# Altium integrated library Vishay Vitramon Ceramic Dipped Capacitor.IntLib: 3117 symbols (part 2 of 35)
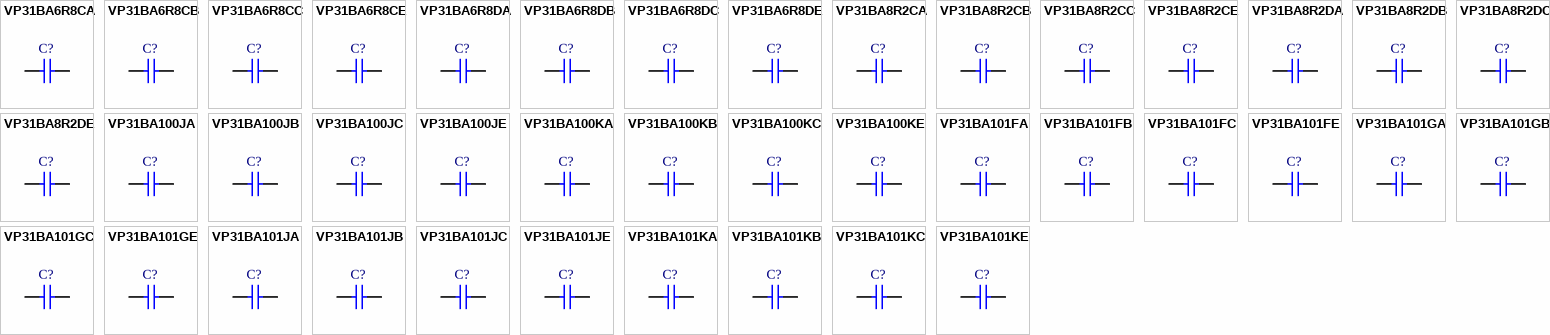
[diagram p78: symbols VP31BA6R8CA to VP31BA101KE]

## VP31BA8R2CC
designator C?
Dipped Radial Multilayer Ceramic Capacitor COG (NPO): 8.2pF, 200V; Published: 17-Dec-2003; DatasheetDocument: 7-Jan-2002; PackageDocument: 7-Jan-2002; PackageReference: VP31-3.2; Publisher: Altium Limited; ComponentLink1Description: Manufacturer Link; ComponentLink1URL: http://www.vishay.com/; Value: 8.2pF
footprint VP31-3.2 (Capacitor, Ceramic, Thru-Hole, Dipped Radial; Body 4 x 3.2 mm (WxT) Pin Spacing 2.54 mm (typ))
simulation model CAP (Capacitor)
signal-integrity model Cap
pins: 1, 2

## VP31BA8R2CE
designator C?
Dipped Radial Multilayer Ceramic Capacitor COG (NPO): 8.2pF, 500V; Published: 17-Dec-2003; DatasheetDocument: 7-Jan-2002; PackageDocument: 7-Jan-2002; PackageReference: VP31-3.2; Publisher: Altium Limited; ComponentLink1Description: Manufacturer Link; ComponentLink1URL: http://www.vishay.com/; Value: 8.2pF
footprint VP31-3.2 (Capacitor, Ceramic, Thru-Hole, Dipped Radial; Body 4 x 3.2 mm (WxT) Pin Spacing 2.54 mm (typ))
simulation model CAP (Capacitor)
signal-integrity model Cap
pins: 1, 2

## VP31BA8R2DA
designator C?
Dipped Radial Multilayer Ceramic Capacitor COG (NPO): 8.2pF, 50/63V; Note: See Datasheet for other packages & tolerances; Published: 17-Dec-2003; DatasheetDocument: 2-Jan-2002; PackageDocument: 8-Feb-2002; PackageReference: VP31-2.5; Publisher: Altium Limited; ComponentLink1Description: Manufacturer Link; ComponentLink1URL: http://www.vishay.com/; Value: 8.2pF
footprint VP31-2.5 (Capacitor, Ceramic, Thru-Hole, Dipped Radial; Body 4 x 2.5 mm (WxT) Pin Spacing 2.54 mm (typ))
simulation model CAP (Capacitor)
signal-integrity model Cap
pins: 1, 2

## VP31BA8R2DB
designator C?
Dipped Radial Multilayer Ceramic Capacitor COG (NPO): 8.2pF, 100V; Note: See Datasheet for other packages & tolerances; Published: 17-Dec-2003; DatasheetDocument: 2-Jan-2002; PackageDocument: 8-Feb-2002; PackageReference: VP31-2.5; Publisher: Altium Limited; ComponentLink1Description: Manufacturer Link; ComponentLink1URL: http://www.vishay.com/; Value: 8.2pF
footprint VP31-2.5 (Capacitor, Ceramic, Thru-Hole, Dipped Radial; Body 4 x 2.5 mm (WxT) Pin Spacing 2.54 mm (typ))
simulation model CAP (Capacitor)
signal-integrity model Cap
pins: 1, 2

## VP31BA8R2DC
designator C?
Dipped Radial Multilayer Ceramic Capacitor COG (NPO): 8.2pF, 200V; Published: 17-Dec-2003; DatasheetDocument: 7-Jan-2002; PackageDocument: 7-Jan-2002; PackageReference: VP31-3.2; Publisher: Altium Limited; ComponentLink1Description: Manufacturer Link; ComponentLink1URL: http://www.vishay.com/; Value: 8.2pF
footprint VP31-3.2 (Capacitor, Ceramic, Thru-Hole, Dipped Radial; Body 4 x 3.2 mm (WxT) Pin Spacing 2.54 mm (typ))
simulation model CAP (Capacitor)
signal-integrity model Cap
pins: 1, 2

## VP31BA8R2DE
designator C?
Dipped Radial Multilayer Ceramic Capacitor COG (NPO): 8.2pF, 500V; Published: 17-Dec-2003; DatasheetDocument: 7-Jan-2002; PackageDocument: 7-Jan-2002; PackageReference: VP31-3.2; Publisher: Altium Limited; ComponentLink1Description: Manufacturer Link; ComponentLink1URL: http://www.vishay.com/; Value: 8.2pF
footprint VP31-3.2 (Capacitor, Ceramic, Thru-Hole, Dipped Radial; Body 4 x 3.2 mm (WxT) Pin Spacing 2.54 mm (typ))
simulation model CAP (Capacitor)
signal-integrity model Cap
pins: 1, 2

## VP31BA100JA
designator C?
Dipped Radial Multilayer Ceramic Capacitor COG (NPO): 10pF, 50/63V; Note: See Datasheet for other packages & tolerances; Published: 17-Dec-2003; DatasheetDocument: 2-Jan-2002; PackageDocument: 8-Feb-2002; PackageReference: VP31-2.5; Publisher: Altium Limited; ComponentLink1Description: Manufacturer Link; ComponentLink1URL: http://www.vishay.com/; Value: 10pF
footprint VP31-2.5 (Capacitor, Ceramic, Thru-Hole, Dipped Radial; Body 4 x 2.5 mm (WxT) Pin Spacing 2.54 mm (typ))
simulation model CAP (Capacitor)
signal-integrity model Cap
pins: 1, 2

## VP31BA100JB
designator C?
Dipped Radial Multilayer Ceramic Capacitor COG (NPO): 10pF, 100V; Note: See Datasheet for other packages & tolerances; Published: 17-Dec-2003; DatasheetDocument: 2-Jan-2002; PackageDocument: 8-Feb-2002; PackageReference: VP31-2.5; Publisher: Altium Limited; ComponentLink1Description: Manufacturer Link; ComponentLink1URL: http://www.vishay.com/; Value: 10pF
footprint VP31-2.5 (Capacitor, Ceramic, Thru-Hole, Dipped Radial; Body 4 x 2.5 mm (WxT) Pin Spacing 2.54 mm (typ))
simulation model CAP (Capacitor)
signal-integrity model Cap
pins: 1, 2

## VP31BA100JC
designator C?
Dipped Radial Multilayer Ceramic Capacitor COG (NPO): 10pF, 200V; Published: 17-Dec-2003; DatasheetDocument: 7-Jan-2002; PackageDocument: 7-Jan-2002; PackageReference: VP31-3.2; Publisher: Altium Limited; ComponentLink1Description: Manufacturer Link; ComponentLink1URL: http://www.vishay.com/; Value: 10pF
footprint VP31-3.2 (Capacitor, Ceramic, Thru-Hole, Dipped Radial; Body 4 x 3.2 mm (WxT) Pin Spacing 2.54 mm (typ))
simulation model CAP (Capacitor)
signal-integrity model Cap
pins: 1, 2

## VP31BA100JE
designator C?
Dipped Radial Multilayer Ceramic Capacitor COG (NPO): 10pF, 500V; Published: 17-Dec-2003; DatasheetDocument: 7-Jan-2002; PackageDocument: 7-Jan-2002; PackageReference: VP31-3.2; Publisher: Altium Limited; ComponentLink1Description: Manufacturer Link; ComponentLink1URL: http://www.vishay.com/; Value: 10pF
footprint VP31-3.2 (Capacitor, Ceramic, Thru-Hole, Dipped Radial; Body 4 x 3.2 mm (WxT) Pin Spacing 2.54 mm (typ))
simulation model CAP (Capacitor)
signal-integrity model Cap
pins: 1, 2

## VP31BA100KA
designator C?
Dipped Radial Multilayer Ceramic Capacitor COG (NPO): 10pF, 50/63V; Note: See Datasheet for other packages & tolerances; Published: 17-Dec-2003; DatasheetDocument: 2-Jan-2002; PackageDocument: 8-Feb-2002; PackageReference: VP31-2.5; Publisher: Altium Limited; ComponentLink1Description: Manufacturer Link; ComponentLink1URL: http://www.vishay.com/; Value: 10pF
footprint VP31-2.5 (Capacitor, Ceramic, Thru-Hole, Dipped Radial; Body 4 x 2.5 mm (WxT) Pin Spacing 2.54 mm (typ))
simulation model CAP (Capacitor)
signal-integrity model Cap
pins: 1, 2

## VP31BA100KB
designator C?
Dipped Radial Multilayer Ceramic Capacitor COG (NPO): 10pF, 100V; Note: See Datasheet for other packages & tolerances; Published: 17-Dec-2003; DatasheetDocument: 2-Jan-2002; PackageDocument: 8-Feb-2002; PackageReference: VP31-2.5; Publisher: Altium Limited; ComponentLink1Description: Manufacturer Link; ComponentLink1URL: http://www.vishay.com/; Value: 10pF
footprint VP31-2.5 (Capacitor, Ceramic, Thru-Hole, Dipped Radial; Body 4 x 2.5 mm (WxT) Pin Spacing 2.54 mm (typ))
simulation model CAP (Capacitor)
signal-integrity model Cap
pins: 1, 2

## VP31BA100KC
designator C?
Dipped Radial Multilayer Ceramic Capacitor COG (NPO): 10pF, 200V; Published: 17-Dec-2003; DatasheetDocument: 7-Jan-2002; PackageDocument: 7-Jan-2002; PackageReference: VP31-3.2; Publisher: Altium Limited; ComponentLink1Description: Manufacturer Link; ComponentLink1URL: http://www.vishay.com/; Value: 10pF
footprint VP31-3.2 (Capacitor, Ceramic, Thru-Hole, Dipped Radial; Body 4 x 3.2 mm (WxT) Pin Spacing 2.54 mm (typ))
simulation model CAP (Capacitor)
signal-integrity model Cap
pins: 1, 2

## VP31BA100KE
designator C?
Dipped Radial Multilayer Ceramic Capacitor COG (NPO): 10pF, 500V; Published: 17-Dec-2003; DatasheetDocument: 7-Jan-2002; PackageDocument: 7-Jan-2002; PackageReference: VP31-3.2; Publisher: Altium Limited; ComponentLink1Description: Manufacturer Link; ComponentLink1URL: http://www.vishay.com/; Value: 10pF
footprint VP31-3.2 (Capacitor, Ceramic, Thru-Hole, Dipped Radial; Body 4 x 3.2 mm (WxT) Pin Spacing 2.54 mm (typ))
simulation model CAP (Capacitor)
signal-integrity model Cap
pins: 1, 2

## VP31BA101FA
designator C?
Dipped Radial Multilayer Ceramic Capacitor COG (NPO): 100pF, 50/63V; Note: See Datasheet for other packages & tolerances; Published: 17-Dec-2003; DatasheetDocument: 2-Jan-2002; PackageDocument: 8-Feb-2002; PackageReference: VP31-2.5; Publisher: Altium Limited; ComponentLink1Description: Manufacturer Link; ComponentLink1URL: http://www.vishay.com/; Value: 100pF
footprint VP31-2.5 (Capacitor, Ceramic, Thru-Hole, Dipped Radial; Body 4 x 2.5 mm (WxT) Pin Spacing 2.54 mm (typ))
simulation model CAP (Capacitor)
signal-integrity model Cap
pins: 1, 2

## VP31BA101FB
designator C?
Dipped Radial Multilayer Ceramic Capacitor COG (NPO): 100pF, 100V; Note: See Datasheet for other packages & tolerances; Published: 17-Dec-2003; DatasheetDocument: 2-Jan-2002; PackageDocument: 8-Feb-2002; PackageReference: VP31-2.5; Publisher: Altium Limited; ComponentLink1Description: Manufacturer Link; ComponentLink1URL: http://www.vishay.com/; Value: 100pF
footprint VP31-2.5 (Capacitor, Ceramic, Thru-Hole, Dipped Radial; Body 4 x 2.5 mm (WxT) Pin Spacing 2.54 mm (typ))
simulation model CAP (Capacitor)
signal-integrity model Cap
pins: 1, 2

## VP31BA101FC
designator C?
Dipped Radial Multilayer Ceramic Capacitor COG (NPO): 100pF, 200V; Published: 17-Dec-2003; DatasheetDocument: 7-Jan-2002; PackageDocument: 7-Jan-2002; PackageReference: VP31-3.2; Publisher: Altium Limited; ComponentLink1Description: Manufacturer Link; ComponentLink1URL: http://www.vishay.com/; Value: 100pF
footprint VP31-3.2 (Capacitor, Ceramic, Thru-Hole, Dipped Radial; Body 4 x 3.2 mm (WxT) Pin Spacing 2.54 mm (typ))
simulation model CAP (Capacitor)
signal-integrity model Cap
pins: 1, 2

## VP31BA101FE
designator C?
Dipped Radial Multilayer Ceramic Capacitor COG (NPO): 100pF, 500V; Published: 17-Dec-2003; DatasheetDocument: 7-Jan-2002; PackageDocument: 7-Jan-2002; PackageReference: VP31-3.2; Publisher: Altium Limited; ComponentLink1Description: Manufacturer Link; ComponentLink1URL: http://www.vishay.com/; Value: 100pF
footprint VP31-3.2 (Capacitor, Ceramic, Thru-Hole, Dipped Radial; Body 4 x 3.2 mm (WxT) Pin Spacing 2.54 mm (typ))
simulation model CAP (Capacitor)
signal-integrity model Cap
pins: 1, 2

## VP31BA101GA
designator C?
Dipped Radial Multilayer Ceramic Capacitor COG (NPO): 100pF, 50/63V; Note: See Datasheet for other packages & tolerances; Published: 17-Dec-2003; DatasheetDocument: 2-Jan-2002; PackageDocument: 8-Feb-2002; PackageReference: VP31-2.5; Publisher: Altium Limited; ComponentLink1Description: Manufacturer Link; ComponentLink1URL: http://www.vishay.com/; Value: 100pF
footprint VP31-2.5 (Capacitor, Ceramic, Thru-Hole, Dipped Radial; Body 4 x 2.5 mm (WxT) Pin Spacing 2.54 mm (typ))
simulation model CAP (Capacitor)
signal-integrity model Cap
pins: 1, 2

## VP31BA101GB
designator C?
Dipped Radial Multilayer Ceramic Capacitor COG (NPO): 100pF, 100V; Note: See Datasheet for other packages & tolerances; Published: 17-Dec-2003; DatasheetDocument: 2-Jan-2002; PackageDocument: 8-Feb-2002; PackageReference: VP31-2.5; Publisher: Altium Limited; ComponentLink1Description: Manufacturer Link; ComponentLink1URL: http://www.vishay.com/; Value: 100pF
footprint VP31-2.5 (Capacitor, Ceramic, Thru-Hole, Dipped Radial; Body 4 x 2.5 mm (WxT) Pin Spacing 2.54 mm (typ))
simulation model CAP (Capacitor)
signal-integrity model Cap
pins: 1, 2

## VP31BA101GC
designator C?
Dipped Radial Multilayer Ceramic Capacitor COG (NPO): 100pF, 200V; Published: 17-Dec-2003; DatasheetDocument: 7-Jan-2002; PackageDocument: 7-Jan-2002; PackageReference: VP31-3.2; Publisher: Altium Limited; ComponentLink1Description: Manufacturer Link; ComponentLink1URL: http://www.vishay.com/; Value: 100pF
footprint VP31-3.2 (Capacitor, Ceramic, Thru-Hole, Dipped Radial; Body 4 x 3.2 mm (WxT) Pin Spacing 2.54 mm (typ))
simulation model CAP (Capacitor)
signal-integrity model Cap
pins: 1, 2

## VP31BA101GE
designator C?
Dipped Radial Multilayer Ceramic Capacitor COG (NPO): 100pF, 500V; Published: 17-Dec-2003; DatasheetDocument: 7-Jan-2002; PackageDocument: 7-Jan-2002; PackageReference: VP31-3.2; Publisher: Altium Limited; ComponentLink1Description: Manufacturer Link; ComponentLink1URL: http://www.vishay.com/; Value: 100pF
footprint VP31-3.2 (Capacitor, Ceramic, Thru-Hole, Dipped Radial; Body 4 x 3.2 mm (WxT) Pin Spacing 2.54 mm (typ))
simulation model CAP (Capacitor)
signal-integrity model Cap
pins: 1, 2

## VP31BA101JA
designator C?
Dipped Radial Multilayer Ceramic Capacitor COG (NPO): 100pF, 50/63V; Note: See Datasheet for other packages & tolerances; Published: 17-Dec-2003; DatasheetDocument: 2-Jan-2002; PackageDocument: 8-Feb-2002; PackageReference: VP31-2.5; Publisher: Altium Limited; ComponentLink1Description: Manufacturer Link; ComponentLink1URL: http://www.vishay.com/; Value: 100pF
footprint VP31-2.5 (Capacitor, Ceramic, Thru-Hole, Dipped Radial; Body 4 x 2.5 mm (WxT) Pin Spacing 2.54 mm (typ))
simulation model CAP (Capacitor)
signal-integrity model Cap
pins: 1, 2

## VP31BA101JB
designator C?
Dipped Radial Multilayer Ceramic Capacitor COG (NPO): 100pF, 100V; Note: See Datasheet for other packages & tolerances; Published: 17-Dec-2003; DatasheetDocument: 2-Jan-2002; PackageDocument: 8-Feb-2002; PackageReference: VP31-2.5; Publisher: Altium Limited; ComponentLink1Description: Manufacturer Link; ComponentLink1URL: http://www.vishay.com/; Value: 100pF
footprint VP31-2.5 (Capacitor, Ceramic, Thru-Hole, Dipped Radial; Body 4 x 2.5 mm (WxT) Pin Spacing 2.54 mm (typ))
simulation model CAP (Capacitor)
signal-integrity model Cap
pins: 1, 2

## VP31BA101JC
designator C?
Dipped Radial Multilayer Ceramic Capacitor COG (NPO): 100pF, 200V; Published: 17-Dec-2003; DatasheetDocument: 7-Jan-2002; PackageDocument: 7-Jan-2002; PackageReference: VP31-3.2; Publisher: Altium Limited; ComponentLink1Description: Manufacturer Link; ComponentLink1URL: http://www.vishay.com/; Value: 100pF
footprint VP31-3.2 (Capacitor, Ceramic, Thru-Hole, Dipped Radial; Body 4 x 3.2 mm (WxT) Pin Spacing 2.54 mm (typ))
simulation model CAP (Capacitor)
signal-integrity model Cap
pins: 1, 2

## VP31BA101JE
designator C?
Dipped Radial Multilayer Ceramic Capacitor COG (NPO): 100pF, 500V; Published: 17-Dec-2003; DatasheetDocument: 7-Jan-2002; PackageDocument: 7-Jan-2002; PackageReference: VP31-3.2; Publisher: Altium Limited; ComponentLink1Description: Manufacturer Link; ComponentLink1URL: http://www.vishay.com/; Value: 100pF
footprint VP31-3.2 (Capacitor, Ceramic, Thru-Hole, Dipped Radial; Body 4 x 3.2 mm (WxT) Pin Spacing 2.54 mm (typ))
simulation model CAP (Capacitor)
signal-integrity model Cap
pins: 1, 2

## VP31BA101KA
designator C?
Dipped Radial Multilayer Ceramic Capacitor COG (NPO): 100pF, 50/63V; Note: See Datasheet for other packages & tolerances; Published: 17-Dec-2003; DatasheetDocument: 2-Jan-2002; PackageDocument: 8-Feb-2002; PackageReference: VP31-2.5; Publisher: Altium Limited; ComponentLink1Description: Manufacturer Link; ComponentLink1URL: http://www.vishay.com/; Value: 100pF
footprint VP31-2.5 (Capacitor, Ceramic, Thru-Hole, Dipped Radial; Body 4 x 2.5 mm (WxT) Pin Spacing 2.54 mm (typ))
simulation model CAP (Capacitor)
signal-integrity model Cap
pins: 1, 2

## VP31BA101KB
designator C?
Dipped Radial Multilayer Ceramic Capacitor COG (NPO): 100pF, 100V; Note: See Datasheet for other packages & tolerances; Published: 17-Dec-2003; DatasheetDocument: 2-Jan-2002; PackageDocument: 8-Feb-2002; PackageReference: VP31-2.5; Publisher: Altium Limited; ComponentLink1Description: Manufacturer Link; ComponentLink1URL: http://www.vishay.com/; Value: 100pF
footprint VP31-2.5 (Capacitor, Ceramic, Thru-Hole, Dipped Radial; Body 4 x 2.5 mm (WxT) Pin Spacing 2.54 mm (typ))
simulation model CAP (Capacitor)
signal-integrity model Cap
pins: 1, 2

## VP31BA101KC
designator C?
Dipped Radial Multilayer Ceramic Capacitor COG (NPO): 100pF, 200V; Published: 17-Dec-2003; DatasheetDocument: 7-Jan-2002; PackageDocument: 7-Jan-2002; PackageReference: VP31-3.2; Publisher: Altium Limited; ComponentLink1Description: Manufacturer Link; ComponentLink1URL: http://www.vishay.com/; Value: 100pF
footprint VP31-3.2 (Capacitor, Ceramic, Thru-Hole, Dipped Radial; Body 4 x 3.2 mm (WxT) Pin Spacing 2.54 mm (typ))
simulation model CAP (Capacitor)
signal-integrity model Cap
pins: 1, 2

## VP31BA101KE
designator C?
Dipped Radial Multilayer Ceramic Capacitor COG (NPO): 100pF, 500V; Published: 17-Dec-2003; DatasheetDocument: 7-Jan-2002; PackageDocument: 7-Jan-2002; PackageReference: VP31-3.2; Publisher: Altium Limited; ComponentLink1Description: Manufacturer Link; ComponentLink1URL: http://www.vishay.com/; Value: 100pF
footprint VP31-3.2 (Capacitor, Ceramic, Thru-Hole, Dipped Radial; Body 4 x 3.2 mm (WxT) Pin Spacing 2.54 mm (typ))
simulation model CAP (Capacitor)
signal-integrity model Cap
pins: 1, 2

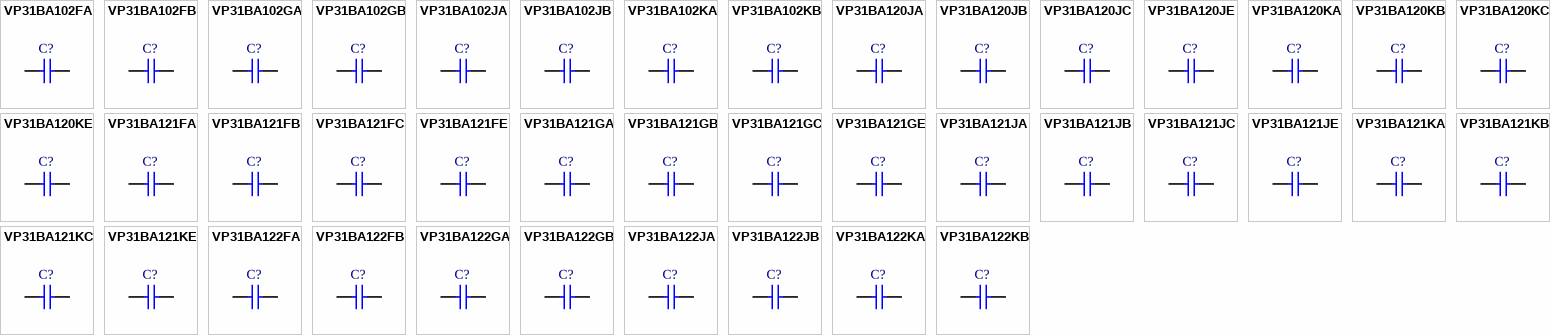
[diagram p3: symbols VP31BA102FA to VP31BA122KB]

## VP31BA102FA
designator C?
Dipped Radial Multilayer Ceramic Capacitor COG (NPO): 1000pF, 50/63V; Note: See Datasheet for other packages & tolerances; Value: 1nF; Published: 17-Dec-2003; DatasheetDocument: 2-Jan-2002; PackageDocument: 8-Feb-2002; PackageReference: VP31-2.5; Publisher: Altium Limited; ComponentLink1Description: Manufacturer Link; ComponentLink1URL: http://www.vishay.com/
footprint VP31-2.5 (Capacitor, Ceramic, Thru-Hole, Dipped Radial; Body 4 x 2.5 mm (WxT) Pin Spacing 2.54 mm (typ))
simulation model CAP (Capacitor)
signal-integrity model Cap
pins: 1, 2

## VP31BA102FB
designator C?
Dipped Radial Multilayer Ceramic Capacitor COG (NPO): 1000pF, 100V; Note: See Datasheet for other packages & tolerances; Value: 1nF; Published: 17-Dec-2003; DatasheetDocument: 2-Jan-2002; PackageDocument: 8-Feb-2002; PackageReference: VP31-2.5; Publisher: Altium Limited; ComponentLink1Description: Manufacturer Link; ComponentLink1URL: http://www.vishay.com/
footprint VP31-2.5 (Capacitor, Ceramic, Thru-Hole, Dipped Radial; Body 4 x 2.5 mm (WxT) Pin Spacing 2.54 mm (typ))
simulation model CAP (Capacitor)
signal-integrity model Cap
pins: 1, 2

## VP31BA102GA
designator C?
Dipped Radial Multilayer Ceramic Capacitor COG (NPO): 1000pF, 50/63V; Note: See Datasheet for other packages & tolerances; Value: 1nF; Published: 17-Dec-2003; DatasheetDocument: 2-Jan-2002; PackageDocument: 8-Feb-2002; PackageReference: VP31-2.5; Publisher: Altium Limited; ComponentLink1Description: Manufacturer Link; ComponentLink1URL: http://www.vishay.com/
footprint VP31-2.5 (Capacitor, Ceramic, Thru-Hole, Dipped Radial; Body 4 x 2.5 mm (WxT) Pin Spacing 2.54 mm (typ))
simulation model CAP (Capacitor)
signal-integrity model Cap
pins: 1, 2

## VP31BA102GB
designator C?
Dipped Radial Multilayer Ceramic Capacitor COG (NPO): 1000pF, 100V; Note: See Datasheet for other packages & tolerances; Value: 1nF; Published: 17-Dec-2003; DatasheetDocument: 2-Jan-2002; PackageDocument: 8-Feb-2002; PackageReference: VP31-2.5; Publisher: Altium Limited; ComponentLink1Description: Manufacturer Link; ComponentLink1URL: http://www.vishay.com/
footprint VP31-2.5 (Capacitor, Ceramic, Thru-Hole, Dipped Radial; Body 4 x 2.5 mm (WxT) Pin Spacing 2.54 mm (typ))
simulation model CAP (Capacitor)
signal-integrity model Cap
pins: 1, 2

## VP31BA102JA
designator C?
Dipped Radial Multilayer Ceramic Capacitor COG (NPO): 1000pF, 50/63V; Note: See Datasheet for other packages & tolerances; Value: 1nF; Published: 17-Dec-2003; DatasheetDocument: 2-Jan-2002; PackageDocument: 8-Feb-2002; PackageReference: VP31-2.5; Publisher: Altium Limited; ComponentLink1Description: Manufacturer Link; ComponentLink1URL: http://www.vishay.com/
footprint VP31-2.5 (Capacitor, Ceramic, Thru-Hole, Dipped Radial; Body 4 x 2.5 mm (WxT) Pin Spacing 2.54 mm (typ))
simulation model CAP (Capacitor)
signal-integrity model Cap
pins: 1, 2

## VP31BA102JB
designator C?
Dipped Radial Multilayer Ceramic Capacitor COG (NPO): 1000pF, 100V; Note: See Datasheet for other packages & tolerances; Value: 1nF; Published: 17-Dec-2003; DatasheetDocument: 2-Jan-2002; PackageDocument: 8-Feb-2002; PackageReference: VP31-2.5; Publisher: Altium Limited; ComponentLink1Description: Manufacturer Link; ComponentLink1URL: http://www.vishay.com/
footprint VP31-2.5 (Capacitor, Ceramic, Thru-Hole, Dipped Radial; Body 4 x 2.5 mm (WxT) Pin Spacing 2.54 mm (typ))
simulation model CAP (Capacitor)
signal-integrity model Cap
pins: 1, 2

## VP31BA102KA
designator C?
Dipped Radial Multilayer Ceramic Capacitor COG (NPO): 1000pF, 50/63V; Note: See Datasheet for other packages & tolerances; Value: 1nF; Published: 17-Dec-2003; DatasheetDocument: 2-Jan-2002; PackageDocument: 8-Feb-2002; PackageReference: VP31-2.5; Publisher: Altium Limited; ComponentLink1Description: Manufacturer Link; ComponentLink1URL: http://www.vishay.com/
footprint VP31-2.5 (Capacitor, Ceramic, Thru-Hole, Dipped Radial; Body 4 x 2.5 mm (WxT) Pin Spacing 2.54 mm (typ))
simulation model CAP (Capacitor)
signal-integrity model Cap
pins: 1, 2

## VP31BA102KB
designator C?
Dipped Radial Multilayer Ceramic Capacitor COG (NPO): 1000pF, 100V; Note: See Datasheet for other packages & tolerances; Value: 1nF; Published: 17-Dec-2003; DatasheetDocument: 2-Jan-2002; PackageDocument: 8-Feb-2002; PackageReference: VP31-2.5; Publisher: Altium Limited; ComponentLink1Description: Manufacturer Link; ComponentLink1URL: http://www.vishay.com/
footprint VP31-2.5 (Capacitor, Ceramic, Thru-Hole, Dipped Radial; Body 4 x 2.5 mm (WxT) Pin Spacing 2.54 mm (typ))
simulation model CAP (Capacitor)
signal-integrity model Cap
pins: 1, 2

## VP31BA120JA
designator C?
Dipped Radial Multilayer Ceramic Capacitor COG (NPO): 12pF, 50/63V; Note: See Datasheet for other packages & tolerances; Published: 17-Dec-2003; DatasheetDocument: 2-Jan-2002; PackageDocument: 8-Feb-2002; PackageReference: VP31-2.5; Publisher: Altium Limited; ComponentLink1Description: Manufacturer Link; ComponentLink1URL: http://www.vishay.com/; Value: 12pF
footprint VP31-2.5 (Capacitor, Ceramic, Thru-Hole, Dipped Radial; Body 4 x 2.5 mm (WxT) Pin Spacing 2.54 mm (typ))
simulation model CAP (Capacitor)
signal-integrity model Cap
pins: 1, 2

## VP31BA120JB
designator C?
Dipped Radial Multilayer Ceramic Capacitor COG (NPO): 12pF, 100V; Note: See Datasheet for other packages & tolerances; Published: 17-Dec-2003; DatasheetDocument: 2-Jan-2002; PackageDocument: 8-Feb-2002; PackageReference: VP31-2.5; Publisher: Altium Limited; ComponentLink1Description: Manufacturer Link; ComponentLink1URL: http://www.vishay.com/; Value: 12pF
footprint VP31-2.5 (Capacitor, Ceramic, Thru-Hole, Dipped Radial; Body 4 x 2.5 mm (WxT) Pin Spacing 2.54 mm (typ))
simulation model CAP (Capacitor)
signal-integrity model Cap
pins: 1, 2

## VP31BA120JC
designator C?
Dipped Radial Multilayer Ceramic Capacitor COG (NPO): 12pF, 200V; Published: 17-Dec-2003; DatasheetDocument: 7-Jan-2002; PackageDocument: 7-Jan-2002; PackageReference: VP31-3.2; Publisher: Altium Limited; ComponentLink1Description: Manufacturer Link; ComponentLink1URL: http://www.vishay.com/; Value: 12pF
footprint VP31-3.2 (Capacitor, Ceramic, Thru-Hole, Dipped Radial; Body 4 x 3.2 mm (WxT) Pin Spacing 2.54 mm (typ))
simulation model CAP (Capacitor)
signal-integrity model Cap
pins: 1, 2

## VP31BA120JE
designator C?
Dipped Radial Multilayer Ceramic Capacitor COG (NPO): 12pF, 500V; Published: 17-Dec-2003; DatasheetDocument: 7-Jan-2002; PackageDocument: 7-Jan-2002; PackageReference: VP31-3.2; Publisher: Altium Limited; ComponentLink1Description: Manufacturer Link; ComponentLink1URL: http://www.vishay.com/; Value: 12pF
footprint VP31-3.2 (Capacitor, Ceramic, Thru-Hole, Dipped Radial; Body 4 x 3.2 mm (WxT) Pin Spacing 2.54 mm (typ))
simulation model CAP (Capacitor)
signal-integrity model Cap
pins: 1, 2

## VP31BA120KA
designator C?
Dipped Radial Multilayer Ceramic Capacitor COG (NPO): 12pF, 50/63V; Note: See Datasheet for other packages & tolerances; Published: 17-Dec-2003; DatasheetDocument: 2-Jan-2002; PackageDocument: 8-Feb-2002; PackageReference: VP31-2.5; Publisher: Altium Limited; ComponentLink1Description: Manufacturer Link; ComponentLink1URL: http://www.vishay.com/; Value: 12pF
footprint VP31-2.5 (Capacitor, Ceramic, Thru-Hole, Dipped Radial; Body 4 x 2.5 mm (WxT) Pin Spacing 2.54 mm (typ))
simulation model CAP (Capacitor)
signal-integrity model Cap
pins: 1, 2

## VP31BA120KB
designator C?
Dipped Radial Multilayer Ceramic Capacitor COG (NPO): 12pF, 100V; Note: See Datasheet for other packages & tolerances; Published: 17-Dec-2003; DatasheetDocument: 2-Jan-2002; PackageDocument: 8-Feb-2002; PackageReference: VP31-2.5; Publisher: Altium Limited; ComponentLink1Description: Manufacturer Link; ComponentLink1URL: http://www.vishay.com/; Value: 12pF
footprint VP31-2.5 (Capacitor, Ceramic, Thru-Hole, Dipped Radial; Body 4 x 2.5 mm (WxT) Pin Spacing 2.54 mm (typ))
simulation model CAP (Capacitor)
signal-integrity model Cap
pins: 1, 2

## VP31BA120KC
designator C?
Dipped Radial Multilayer Ceramic Capacitor COG (NPO): 12pF, 200V; Published: 17-Dec-2003; DatasheetDocument: 7-Jan-2002; PackageDocument: 7-Jan-2002; PackageReference: VP31-3.2; Publisher: Altium Limited; ComponentLink1Description: Manufacturer Link; ComponentLink1URL: http://www.vishay.com/; Value: 12pF
footprint VP31-3.2 (Capacitor, Ceramic, Thru-Hole, Dipped Radial; Body 4 x 3.2 mm (WxT) Pin Spacing 2.54 mm (typ))
simulation model CAP (Capacitor)
signal-integrity model Cap
pins: 1, 2

## VP31BA120KE
designator C?
Dipped Radial Multilayer Ceramic Capacitor COG (NPO): 12pF, 500V; Published: 17-Dec-2003; DatasheetDocument: 7-Jan-2002; PackageDocument: 7-Jan-2002; PackageReference: VP31-3.2; Publisher: Altium Limited; ComponentLink1Description: Manufacturer Link; ComponentLink1URL: http://www.vishay.com/; Value: 12pF
footprint VP31-3.2 (Capacitor, Ceramic, Thru-Hole, Dipped Radial; Body 4 x 3.2 mm (WxT) Pin Spacing 2.54 mm (typ))
simulation model CAP (Capacitor)
signal-integrity model Cap
pins: 1, 2

## VP31BA121FA
designator C?
Dipped Radial Multilayer Ceramic Capacitor COG (NPO): 120pF, 50/63V; Note: See Datasheet for other packages & tolerances; Published: 17-Dec-2003; DatasheetDocument: 2-Jan-2002; PackageDocument: 8-Feb-2002; PackageReference: VP31-2.5; Publisher: Altium Limited; ComponentLink1Description: Manufacturer Link; ComponentLink1URL: http://www.vishay.com/; Value: 120pF
footprint VP31-2.5 (Capacitor, Ceramic, Thru-Hole, Dipped Radial; Body 4 x 2.5 mm (WxT) Pin Spacing 2.54 mm (typ))
simulation model CAP (Capacitor)
signal-integrity model Cap
pins: 1, 2

## VP31BA121FB
designator C?
Dipped Radial Multilayer Ceramic Capacitor COG (NPO): 120pF, 100V; Note: See Datasheet for other packages & tolerances; Published: 17-Dec-2003; DatasheetDocument: 2-Jan-2002; PackageDocument: 8-Feb-2002; PackageReference: VP31-2.5; Publisher: Altium Limited; ComponentLink1Description: Manufacturer Link; ComponentLink1URL: http://www.vishay.com/; Value: 120pF
footprint VP31-2.5 (Capacitor, Ceramic, Thru-Hole, Dipped Radial; Body 4 x 2.5 mm (WxT) Pin Spacing 2.54 mm (typ))
simulation model CAP (Capacitor)
signal-integrity model Cap
pins: 1, 2

## VP31BA121FC
designator C?
Dipped Radial Multilayer Ceramic Capacitor COG (NPO): 120pF, 200V; Published: 17-Dec-2003; DatasheetDocument: 7-Jan-2002; PackageDocument: 7-Jan-2002; PackageReference: VP31-3.2; Publisher: Altium Limited; ComponentLink1Description: Manufacturer Link; ComponentLink1URL: http://www.vishay.com/; Value: 120pF
footprint VP31-3.2 (Capacitor, Ceramic, Thru-Hole, Dipped Radial; Body 4 x 3.2 mm (WxT) Pin Spacing 2.54 mm (typ))
simulation model CAP (Capacitor)
signal-integrity model Cap
pins: 1, 2

## VP31BA121FE
designator C?
Dipped Radial Multilayer Ceramic Capacitor COG (NPO): 120pF, 500V; Published: 17-Dec-2003; DatasheetDocument: 7-Jan-2002; PackageDocument: 7-Jan-2002; PackageReference: VP31-3.2; Publisher: Altium Limited; ComponentLink1Description: Manufacturer Link; ComponentLink1URL: http://www.vishay.com/; Value: 120pF
footprint VP31-3.2 (Capacitor, Ceramic, Thru-Hole, Dipped Radial; Body 4 x 3.2 mm (WxT) Pin Spacing 2.54 mm (typ))
simulation model CAP (Capacitor)
signal-integrity model Cap
pins: 1, 2

## VP31BA121GA
designator C?
Dipped Radial Multilayer Ceramic Capacitor COG (NPO): 120pF, 50/63V; Note: See Datasheet for other packages & tolerances; Published: 17-Dec-2003; DatasheetDocument: 2-Jan-2002; PackageDocument: 8-Feb-2002; PackageReference: VP31-2.5; Publisher: Altium Limited; ComponentLink1Description: Manufacturer Link; ComponentLink1URL: http://www.vishay.com/; Value: 120pF
footprint VP31-2.5 (Capacitor, Ceramic, Thru-Hole, Dipped Radial; Body 4 x 2.5 mm (WxT) Pin Spacing 2.54 mm (typ))
simulation model CAP (Capacitor)
signal-integrity model Cap
pins: 1, 2

## VP31BA121GB
designator C?
Dipped Radial Multilayer Ceramic Capacitor COG (NPO): 120pF, 100V; Note: See Datasheet for other packages & tolerances; Published: 17-Dec-2003; DatasheetDocument: 2-Jan-2002; PackageDocument: 8-Feb-2002; PackageReference: VP31-2.5; Publisher: Altium Limited; ComponentLink1Description: Manufacturer Link; ComponentLink1URL: http://www.vishay.com/; Value: 120pF
footprint VP31-2.5 (Capacitor, Ceramic, Thru-Hole, Dipped Radial; Body 4 x 2.5 mm (WxT) Pin Spacing 2.54 mm (typ))
simulation model CAP (Capacitor)
signal-integrity model Cap
pins: 1, 2

## VP31BA121GC
designator C?
Dipped Radial Multilayer Ceramic Capacitor COG (NPO): 120pF, 200V; Published: 17-Dec-2003; DatasheetDocument: 7-Jan-2002; PackageDocument: 7-Jan-2002; PackageReference: VP31-3.2; Publisher: Altium Limited; ComponentLink1Description: Manufacturer Link; ComponentLink1URL: http://www.vishay.com/; Value: 120pF
footprint VP31-3.2 (Capacitor, Ceramic, Thru-Hole, Dipped Radial; Body 4 x 3.2 mm (WxT) Pin Spacing 2.54 mm (typ))
simulation model CAP (Capacitor)
signal-integrity model Cap
pins: 1, 2

## VP31BA121GE
designator C?
Dipped Radial Multilayer Ceramic Capacitor COG (NPO): 120pF, 500V; Published: 17-Dec-2003; DatasheetDocument: 7-Jan-2002; PackageDocument: 7-Jan-2002; PackageReference: VP31-3.2; Publisher: Altium Limited; ComponentLink1Description: Manufacturer Link; ComponentLink1URL: http://www.vishay.com/; Value: 120pF
footprint VP31-3.2 (Capacitor, Ceramic, Thru-Hole, Dipped Radial; Body 4 x 3.2 mm (WxT) Pin Spacing 2.54 mm (typ))
simulation model CAP (Capacitor)
signal-integrity model Cap
pins: 1, 2

## VP31BA121JA
designator C?
Dipped Radial Multilayer Ceramic Capacitor COG (NPO): 120pF, 50/63V; Note: See Datasheet for other packages & tolerances; Published: 17-Dec-2003; DatasheetDocument: 2-Jan-2002; PackageDocument: 8-Feb-2002; PackageReference: VP31-2.5; Publisher: Altium Limited; ComponentLink1Description: Manufacturer Link; ComponentLink1URL: http://www.vishay.com/; Value: 120pF
footprint VP31-2.5 (Capacitor, Ceramic, Thru-Hole, Dipped Radial; Body 4 x 2.5 mm (WxT) Pin Spacing 2.54 mm (typ))
simulation model CAP (Capacitor)
signal-integrity model Cap
pins: 1, 2

## VP31BA121JB
designator C?
Dipped Radial Multilayer Ceramic Capacitor COG (NPO): 120pF, 100V; Note: See Datasheet for other packages & tolerances; Published: 17-Dec-2003; DatasheetDocument: 2-Jan-2002; PackageDocument: 8-Feb-2002; PackageReference: VP31-2.5; Publisher: Altium Limited; ComponentLink1Description: Manufacturer Link; ComponentLink1URL: http://www.vishay.com/; Value: 120pF
footprint VP31-2.5 (Capacitor, Ceramic, Thru-Hole, Dipped Radial; Body 4 x 2.5 mm (WxT) Pin Spacing 2.54 mm (typ))
simulation model CAP (Capacitor)
signal-integrity model Cap
pins: 1, 2

## VP31BA121JC
designator C?
Dipped Radial Multilayer Ceramic Capacitor COG (NPO): 120pF, 200V; Published: 17-Dec-2003; DatasheetDocument: 7-Jan-2002; PackageDocument: 7-Jan-2002; PackageReference: VP31-3.2; Publisher: Altium Limited; ComponentLink1Description: Manufacturer Link; ComponentLink1URL: http://www.vishay.com/; Value: 120pF
footprint VP31-3.2 (Capacitor, Ceramic, Thru-Hole, Dipped Radial; Body 4 x 3.2 mm (WxT) Pin Spacing 2.54 mm (typ))
simulation model CAP (Capacitor)
signal-integrity model Cap
pins: 1, 2

## VP31BA121JE
designator C?
Dipped Radial Multilayer Ceramic Capacitor COG (NPO): 120pF, 500V; Published: 17-Dec-2003; DatasheetDocument: 7-Jan-2002; PackageDocument: 7-Jan-2002; PackageReference: VP31-3.2; Publisher: Altium Limited; ComponentLink1Description: Manufacturer Link; ComponentLink1URL: http://www.vishay.com/; Value: 120pF
footprint VP31-3.2 (Capacitor, Ceramic, Thru-Hole, Dipped Radial; Body 4 x 3.2 mm (WxT) Pin Spacing 2.54 mm (typ))
simulation model CAP (Capacitor)
signal-integrity model Cap
pins: 1, 2

## VP31BA121KA
designator C?
Dipped Radial Multilayer Ceramic Capacitor COG (NPO): 120pF, 50/63V; Note: See Datasheet for other packages & tolerances; Published: 17-Dec-2003; DatasheetDocument: 2-Jan-2002; PackageDocument: 8-Feb-2002; PackageReference: VP31-2.5; Publisher: Altium Limited; ComponentLink1Description: Manufacturer Link; ComponentLink1URL: http://www.vishay.com/; Value: 120pF
footprint VP31-2.5 (Capacitor, Ceramic, Thru-Hole, Dipped Radial; Body 4 x 2.5 mm (WxT) Pin Spacing 2.54 mm (typ))
simulation model CAP (Capacitor)
signal-integrity model Cap
pins: 1, 2

## VP31BA121KB
designator C?
Dipped Radial Multilayer Ceramic Capacitor COG (NPO): 120pF, 100V; Note: See Datasheet for other packages & tolerances; Published: 17-Dec-2003; DatasheetDocument: 2-Jan-2002; PackageDocument: 8-Feb-2002; PackageReference: VP31-2.5; Publisher: Altium Limited; ComponentLink1Description: Manufacturer Link; ComponentLink1URL: http://www.vishay.com/; Value: 120pF
footprint VP31-2.5 (Capacitor, Ceramic, Thru-Hole, Dipped Radial; Body 4 x 2.5 mm (WxT) Pin Spacing 2.54 mm (typ))
simulation model CAP (Capacitor)
signal-integrity model Cap
pins: 1, 2

## VP31BA121KC
designator C?
Dipped Radial Multilayer Ceramic Capacitor COG (NPO): 120pF, 200V; Published: 17-Dec-2003; DatasheetDocument: 7-Jan-2002; PackageDocument: 7-Jan-2002; PackageReference: VP31-3.2; Publisher: Altium Limited; ComponentLink1Description: Manufacturer Link; ComponentLink1URL: http://www.vishay.com/; Value: 120pF
footprint VP31-3.2 (Capacitor, Ceramic, Thru-Hole, Dipped Radial; Body 4 x 3.2 mm (WxT) Pin Spacing 2.54 mm (typ))
simulation model CAP (Capacitor)
signal-integrity model Cap
pins: 1, 2

## VP31BA121KE
designator C?
Dipped Radial Multilayer Ceramic Capacitor COG (NPO): 120pF, 500V; Published: 17-Dec-2003; DatasheetDocument: 7-Jan-2002; PackageDocument: 7-Jan-2002; PackageReference: VP31-3.2; Publisher: Altium Limited; ComponentLink1Description: Manufacturer Link; ComponentLink1URL: http://www.vishay.com/; Value: 120pF
footprint VP31-3.2 (Capacitor, Ceramic, Thru-Hole, Dipped Radial; Body 4 x 3.2 mm (WxT) Pin Spacing 2.54 mm (typ))
simulation model CAP (Capacitor)
signal-integrity model Cap
pins: 1, 2

## VP31BA122FA
designator C?
Dipped Radial Multilayer Ceramic Capacitor COG (NPO): 1200pF, 50/63V; Note: See Datasheet for other packages & tolerances; Value: 1.2nF; Published: 17-Dec-2003; DatasheetDocument: 2-Jan-2002; PackageDocument: 8-Feb-2002; PackageReference: VP31-2.5; Publisher: Altium Limited; ComponentLink1Description: Manufacturer Link; ComponentLink1URL: http://www.vishay.com/
footprint VP31-2.5 (Capacitor, Ceramic, Thru-Hole, Dipped Radial; Body 4 x 2.5 mm (WxT) Pin Spacing 2.54 mm (typ))
simulation model CAP (Capacitor)
signal-integrity model Cap
pins: 1, 2

## VP31BA122FB
designator C?
Dipped Radial Multilayer Ceramic Capacitor COG (NPO): 1200pF, 100V; Note: See Datasheet for other packages & tolerances; Value: 1.2nF; Published: 17-Dec-2003; DatasheetDocument: 2-Jan-2002; PackageDocument: 8-Feb-2002; PackageReference: VP31-2.5; Publisher: Altium Limited; ComponentLink1Description: Manufacturer Link; ComponentLink1URL: http://www.vishay.com/
footprint VP31-2.5 (Capacitor, Ceramic, Thru-Hole, Dipped Radial; Body 4 x 2.5 mm (WxT) Pin Spacing 2.54 mm (typ))
simulation model CAP (Capacitor)
signal-integrity model Cap
pins: 1, 2

## VP31BA122GA
designator C?
Dipped Radial Multilayer Ceramic Capacitor COG (NPO): 1200pF, 50/63V; Note: See Datasheet for other packages & tolerances; Value: 1.2nF; Published: 17-Dec-2003; DatasheetDocument: 2-Jan-2002; PackageDocument: 8-Feb-2002; PackageReference: VP31-2.5; Publisher: Altium Limited; ComponentLink1Description: Manufacturer Link; ComponentLink1URL: http://www.vishay.com/
footprint VP31-2.5 (Capacitor, Ceramic, Thru-Hole, Dipped Radial; Body 4 x 2.5 mm (WxT) Pin Spacing 2.54 mm (typ))
simulation model CAP (Capacitor)
signal-integrity model Cap
pins: 1, 2

## VP31BA122GB
designator C?
Dipped Radial Multilayer Ceramic Capacitor COG (NPO): 1200pF, 100V; Note: See Datasheet for other packages & tolerances; Value: 1.2nF; Published: 17-Dec-2003; DatasheetDocument: 2-Jan-2002; PackageDocument: 8-Feb-2002; PackageReference: VP31-2.5; Publisher: Altium Limited; ComponentLink1Description: Manufacturer Link; ComponentLink1URL: http://www.vishay.com/
footprint VP31-2.5 (Capacitor, Ceramic, Thru-Hole, Dipped Radial; Body 4 x 2.5 mm (WxT) Pin Spacing 2.54 mm (typ))
simulation model CAP (Capacitor)
signal-integrity model Cap
pins: 1, 2

## VP31BA122JA
designator C?
Dipped Radial Multilayer Ceramic Capacitor COG (NPO): 1200pF, 50/63V; Note: See Datasheet for other packages & tolerances; Value: 1.2nF; Published: 17-Dec-2003; DatasheetDocument: 2-Jan-2002; PackageDocument: 8-Feb-2002; PackageReference: VP31-2.5; Publisher: Altium Limited; ComponentLink1Description: Manufacturer Link; ComponentLink1URL: http://www.vishay.com/
footprint VP31-2.5 (Capacitor, Ceramic, Thru-Hole, Dipped Radial; Body 4 x 2.5 mm (WxT) Pin Spacing 2.54 mm (typ))
simulation model CAP (Capacitor)
signal-integrity model Cap
pins: 1, 2

## VP31BA122JB
designator C?
Dipped Radial Multilayer Ceramic Capacitor COG (NPO): 1200pF, 100V; Note: See Datasheet for other packages & tolerances; Value: 1.2nF; Published: 17-Dec-2003; DatasheetDocument: 2-Jan-2002; PackageDocument: 8-Feb-2002; PackageReference: VP31-2.5; Publisher: Altium Limited; ComponentLink1Description: Manufacturer Link; ComponentLink1URL: http://www.vishay.com/
footprint VP31-2.5 (Capacitor, Ceramic, Thru-Hole, Dipped Radial; Body 4 x 2.5 mm (WxT) Pin Spacing 2.54 mm (typ))
simulation model CAP (Capacitor)
signal-integrity model Cap
pins: 1, 2

## VP31BA122KA
designator C?
Dipped Radial Multilayer Ceramic Capacitor COG (NPO): 1200pF, 50/63V; Note: See Datasheet for other packages & tolerances; Value: 1.2nF; Published: 17-Dec-2003; DatasheetDocument: 2-Jan-2002; PackageDocument: 8-Feb-2002; PackageReference: VP31-2.5; Publisher: Altium Limited; ComponentLink1Description: Manufacturer Link; ComponentLink1URL: http://www.vishay.com/
footprint VP31-2.5 (Capacitor, Ceramic, Thru-Hole, Dipped Radial; Body 4 x 2.5 mm (WxT) Pin Spacing 2.54 mm (typ))
simulation model CAP (Capacitor)
signal-integrity model Cap
pins: 1, 2

## VP31BA122KB
designator C?
Dipped Radial Multilayer Ceramic Capacitor COG (NPO): 1200pF, 100V; Note: See Datasheet for other packages & tolerances; Value: 1.2nF; Published: 17-Dec-2003; DatasheetDocument: 2-Jan-2002; PackageDocument: 8-Feb-2002; PackageReference: VP31-2.5; Publisher: Altium Limited; ComponentLink1Description: Manufacturer Link; ComponentLink1URL: http://www.vishay.com/
footprint VP31-2.5 (Capacitor, Ceramic, Thru-Hole, Dipped Radial; Body 4 x 2.5 mm (WxT) Pin Spacing 2.54 mm (typ))
simulation model CAP (Capacitor)
signal-integrity model Cap
pins: 1, 2

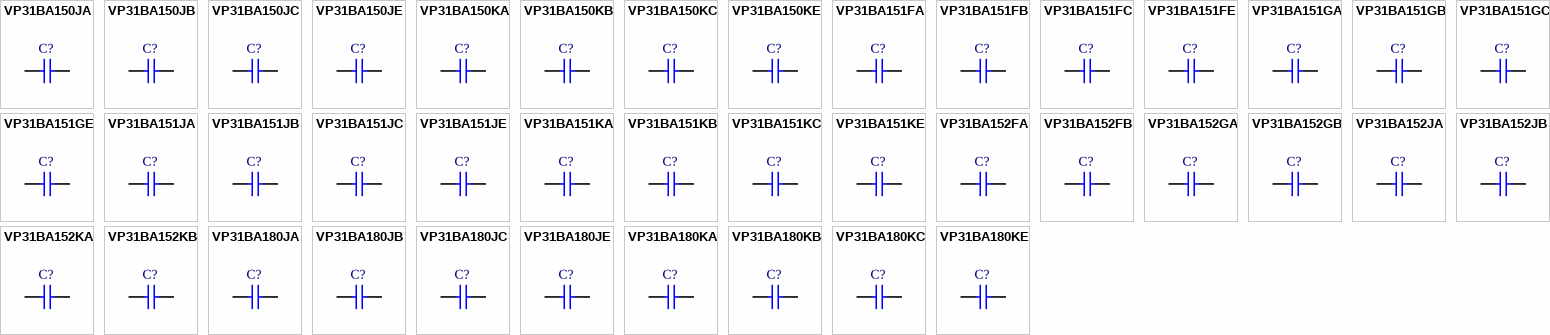
[diagram p4: symbols VP31BA150JA to VP31BA180KE]

## VP31BA150JA
designator C?
Dipped Radial Multilayer Ceramic Capacitor COG (NPO): 15pF, 50/63V; Note: See Datasheet for other packages & tolerances; Published: 17-Dec-2003; DatasheetDocument: 2-Jan-2002; PackageDocument: 8-Feb-2002; PackageReference: VP31-2.5; Publisher: Altium Limited; ComponentLink1Description: Manufacturer Link; ComponentLink1URL: http://www.vishay.com/; Value: 15pF
footprint VP31-2.5 (Capacitor, Ceramic, Thru-Hole, Dipped Radial; Body 4 x 2.5 mm (WxT) Pin Spacing 2.54 mm (typ))
simulation model CAP (Capacitor)
signal-integrity model Cap
pins: 1, 2

## VP31BA150JB
designator C?
Dipped Radial Multilayer Ceramic Capacitor COG (NPO): 15pF, 100V; Note: See Datasheet for other packages & tolerances; Published: 17-Dec-2003; DatasheetDocument: 2-Jan-2002; PackageDocument: 8-Feb-2002; PackageReference: VP31-2.5; Publisher: Altium Limited; ComponentLink1Description: Manufacturer Link; ComponentLink1URL: http://www.vishay.com/; Value: 15pF
footprint VP31-2.5 (Capacitor, Ceramic, Thru-Hole, Dipped Radial; Body 4 x 2.5 mm (WxT) Pin Spacing 2.54 mm (typ))
simulation model CAP (Capacitor)
signal-integrity model Cap
pins: 1, 2

## VP31BA150JC
designator C?
Dipped Radial Multilayer Ceramic Capacitor COG (NPO): 15pF, 200V; Published: 17-Dec-2003; DatasheetDocument: 7-Jan-2002; PackageDocument: 7-Jan-2002; PackageReference: VP31-3.2; Publisher: Altium Limited; ComponentLink1Description: Manufacturer Link; ComponentLink1URL: http://www.vishay.com/; Value: 15pF
footprint VP31-3.2 (Capacitor, Ceramic, Thru-Hole, Dipped Radial; Body 4 x 3.2 mm (WxT) Pin Spacing 2.54 mm (typ))
simulation model CAP (Capacitor)
signal-integrity model Cap
pins: 1, 2

## VP31BA150JE
designator C?
Dipped Radial Multilayer Ceramic Capacitor COG (NPO): 15pF, 500V; Published: 17-Dec-2003; DatasheetDocument: 7-Jan-2002; PackageDocument: 7-Jan-2002; PackageReference: VP31-3.2; Publisher: Altium Limited; ComponentLink1Description: Manufacturer Link; ComponentLink1URL: http://www.vishay.com/; Value: 15pF
footprint VP31-3.2 (Capacitor, Ceramic, Thru-Hole, Dipped Radial; Body 4 x 3.2 mm (WxT) Pin Spacing 2.54 mm (typ))
simulation model CAP (Capacitor)
signal-integrity model Cap
pins: 1, 2

## VP31BA150KA
designator C?
Dipped Radial Multilayer Ceramic Capacitor COG (NPO): 15pF, 50/63V; Note: See Datasheet for other packages & tolerances; Published: 17-Dec-2003; DatasheetDocument: 2-Jan-2002; PackageDocument: 8-Feb-2002; PackageReference: VP31-2.5; Publisher: Altium Limited; ComponentLink1Description: Manufacturer Link; ComponentLink1URL: http://www.vishay.com/; Value: 15pF
footprint VP31-2.5 (Capacitor, Ceramic, Thru-Hole, Dipped Radial; Body 4 x 2.5 mm (WxT) Pin Spacing 2.54 mm (typ))
simulation model CAP (Capacitor)
signal-integrity model Cap
pins: 1, 2

## VP31BA150KB
designator C?
Dipped Radial Multilayer Ceramic Capacitor COG (NPO): 15pF, 100V; Note: See Datasheet for other packages & tolerances; Published: 17-Dec-2003; DatasheetDocument: 2-Jan-2002; PackageDocument: 8-Feb-2002; PackageReference: VP31-2.5; Publisher: Altium Limited; ComponentLink1Description: Manufacturer Link; ComponentLink1URL: http://www.vishay.com/; Value: 15pF
footprint VP31-2.5 (Capacitor, Ceramic, Thru-Hole, Dipped Radial; Body 4 x 2.5 mm (WxT) Pin Spacing 2.54 mm (typ))
simulation model CAP (Capacitor)
signal-integrity model Cap
pins: 1, 2

## VP31BA150KC
designator C?
Dipped Radial Multilayer Ceramic Capacitor COG (NPO): 15pF, 200V; Published: 17-Dec-2003; DatasheetDocument: 7-Jan-2002; PackageDocument: 7-Jan-2002; PackageReference: VP31-3.2; Publisher: Altium Limited; ComponentLink1Description: Manufacturer Link; ComponentLink1URL: http://www.vishay.com/; Value: 15pF
footprint VP31-3.2 (Capacitor, Ceramic, Thru-Hole, Dipped Radial; Body 4 x 3.2 mm (WxT) Pin Spacing 2.54 mm (typ))
simulation model CAP (Capacitor)
signal-integrity model Cap
pins: 1, 2

## VP31BA150KE
designator C?
Dipped Radial Multilayer Ceramic Capacitor COG (NPO): 15pF, 500V; Published: 17-Dec-2003; DatasheetDocument: 7-Jan-2002; PackageDocument: 7-Jan-2002; PackageReference: VP31-3.2; Publisher: Altium Limited; ComponentLink1Description: Manufacturer Link; ComponentLink1URL: http://www.vishay.com/; Value: 15pF
footprint VP31-3.2 (Capacitor, Ceramic, Thru-Hole, Dipped Radial; Body 4 x 3.2 mm (WxT) Pin Spacing 2.54 mm (typ))
simulation model CAP (Capacitor)
signal-integrity model Cap
pins: 1, 2

## VP31BA151FA
designator C?
Dipped Radial Multilayer Ceramic Capacitor COG (NPO): 150pF, 50/63V; Note: See Datasheet for other packages & tolerances; Published: 17-Dec-2003; DatasheetDocument: 2-Jan-2002; PackageDocument: 8-Feb-2002; PackageReference: VP31-2.5; Publisher: Altium Limited; ComponentLink1Description: Manufacturer Link; ComponentLink1URL: http://www.vishay.com/; Value: 150pF
footprint VP31-2.5 (Capacitor, Ceramic, Thru-Hole, Dipped Radial; Body 4 x 2.5 mm (WxT) Pin Spacing 2.54 mm (typ))
simulation model CAP (Capacitor)
signal-integrity model Cap
pins: 1, 2

## VP31BA151FB
designator C?
Dipped Radial Multilayer Ceramic Capacitor COG (NPO): 150pF, 100V; Note: See Datasheet for other packages & tolerances; Published: 17-Dec-2003; DatasheetDocument: 2-Jan-2002; PackageDocument: 8-Feb-2002; PackageReference: VP31-2.5; Publisher: Altium Limited; ComponentLink1Description: Manufacturer Link; ComponentLink1URL: http://www.vishay.com/; Value: 150pF
footprint VP31-2.5 (Capacitor, Ceramic, Thru-Hole, Dipped Radial; Body 4 x 2.5 mm (WxT) Pin Spacing 2.54 mm (typ))
simulation model CAP (Capacitor)
signal-integrity model Cap
pins: 1, 2

## VP31BA151FC
designator C?
Dipped Radial Multilayer Ceramic Capacitor COG (NPO): 150pF, 200V; Published: 17-Dec-2003; DatasheetDocument: 7-Jan-2002; PackageDocument: 7-Jan-2002; PackageReference: VP31-3.2; Publisher: Altium Limited; ComponentLink1Description: Manufacturer Link; ComponentLink1URL: http://www.vishay.com/; Value: 150pF
footprint VP31-3.2 (Capacitor, Ceramic, Thru-Hole, Dipped Radial; Body 4 x 3.2 mm (WxT) Pin Spacing 2.54 mm (typ))
simulation model CAP (Capacitor)
signal-integrity model Cap
pins: 1, 2

## VP31BA151FE
designator C?
Dipped Radial Multilayer Ceramic Capacitor COG (NPO): 150pF, 500V; Published: 17-Dec-2003; DatasheetDocument: 7-Jan-2002; PackageDocument: 7-Jan-2002; PackageReference: VP31-3.2; Publisher: Altium Limited; ComponentLink1Description: Manufacturer Link; ComponentLink1URL: http://www.vishay.com/; Value: 150pF
footprint VP31-3.2 (Capacitor, Ceramic, Thru-Hole, Dipped Radial; Body 4 x 3.2 mm (WxT) Pin Spacing 2.54 mm (typ))
simulation model CAP (Capacitor)
signal-integrity model Cap
pins: 1, 2

## VP31BA151GA
designator C?
Dipped Radial Multilayer Ceramic Capacitor COG (NPO): 150pF, 50/63V; Note: See Datasheet for other packages & tolerances; Published: 17-Dec-2003; DatasheetDocument: 2-Jan-2002; PackageDocument: 8-Feb-2002; PackageReference: VP31-2.5; Publisher: Altium Limited; ComponentLink1Description: Manufacturer Link; ComponentLink1URL: http://www.vishay.com/; Value: 150pF
footprint VP31-2.5 (Capacitor, Ceramic, Thru-Hole, Dipped Radial; Body 4 x 2.5 mm (WxT) Pin Spacing 2.54 mm (typ))
simulation model CAP (Capacitor)
signal-integrity model Cap
pins: 1, 2

## VP31BA151GB
designator C?
Dipped Radial Multilayer Ceramic Capacitor COG (NPO): 150pF, 100V; Note: See Datasheet for other packages & tolerances; Published: 17-Dec-2003; DatasheetDocument: 2-Jan-2002; PackageDocument: 8-Feb-2002; PackageReference: VP31-2.5; Publisher: Altium Limited; ComponentLink1Description: Manufacturer Link; ComponentLink1URL: http://www.vishay.com/; Value: 150pF
footprint VP31-2.5 (Capacitor, Ceramic, Thru-Hole, Dipped Radial; Body 4 x 2.5 mm (WxT) Pin Spacing 2.54 mm (typ))
simulation model CAP (Capacitor)
signal-integrity model Cap
pins: 1, 2

## VP31BA151GC
designator C?
Dipped Radial Multilayer Ceramic Capacitor COG (NPO): 150pF, 200V; Published: 17-Dec-2003; DatasheetDocument: 7-Jan-2002; PackageDocument: 7-Jan-2002; PackageReference: VP31-3.2; Publisher: Altium Limited; ComponentLink1Description: Manufacturer Link; ComponentLink1URL: http://www.vishay.com/; Value: 150pF
footprint VP31-3.2 (Capacitor, Ceramic, Thru-Hole, Dipped Radial; Body 4 x 3.2 mm (WxT) Pin Spacing 2.54 mm (typ))
simulation model CAP (Capacitor)
signal-integrity model Cap
pins: 1, 2

## VP31BA151GE
designator C?
Dipped Radial Multilayer Ceramic Capacitor COG (NPO): 150pF, 500V; Published: 17-Dec-2003; DatasheetDocument: 7-Jan-2002; PackageDocument: 7-Jan-2002; PackageReference: VP31-3.2; Publisher: Altium Limited; ComponentLink1Description: Manufacturer Link; ComponentLink1URL: http://www.vishay.com/; Value: 150pF
footprint VP31-3.2 (Capacitor, Ceramic, Thru-Hole, Dipped Radial; Body 4 x 3.2 mm (WxT) Pin Spacing 2.54 mm (typ))
simulation model CAP (Capacitor)
signal-integrity model Cap
pins: 1, 2

## VP31BA151JA
designator C?
Dipped Radial Multilayer Ceramic Capacitor COG (NPO): 150pF, 50/63V; Note: See Datasheet for other packages & tolerances; Published: 17-Dec-2003; DatasheetDocument: 2-Jan-2002; PackageDocument: 8-Feb-2002; PackageReference: VP31-2.5; Publisher: Altium Limited; ComponentLink1Description: Manufacturer Link; ComponentLink1URL: http://www.vishay.com/; Value: 150pF
footprint VP31-2.5 (Capacitor, Ceramic, Thru-Hole, Dipped Radial; Body 4 x 2.5 mm (WxT) Pin Spacing 2.54 mm (typ))
simulation model CAP (Capacitor)
signal-integrity model Cap
pins: 1, 2

## VP31BA151JB
designator C?
Dipped Radial Multilayer Ceramic Capacitor COG (NPO): 150pF, 100V; Note: See Datasheet for other packages & tolerances; Published: 17-Dec-2003; DatasheetDocument: 2-Jan-2002; PackageDocument: 8-Feb-2002; PackageReference: VP31-2.5; Publisher: Altium Limited; ComponentLink1Description: Manufacturer Link; ComponentLink1URL: http://www.vishay.com/; Value: 150pF
footprint VP31-2.5 (Capacitor, Ceramic, Thru-Hole, Dipped Radial; Body 4 x 2.5 mm (WxT) Pin Spacing 2.54 mm (typ))
simulation model CAP (Capacitor)
signal-integrity model Cap
pins: 1, 2

## VP31BA151JC
designator C?
Dipped Radial Multilayer Ceramic Capacitor COG (NPO): 150pF, 200V; Published: 17-Dec-2003; DatasheetDocument: 7-Jan-2002; PackageDocument: 7-Jan-2002; PackageReference: VP31-3.2; Publisher: Altium Limited; ComponentLink1Description: Manufacturer Link; ComponentLink1URL: http://www.vishay.com/; Value: 150pF
footprint VP31-3.2 (Capacitor, Ceramic, Thru-Hole, Dipped Radial; Body 4 x 3.2 mm (WxT) Pin Spacing 2.54 mm (typ))
simulation model CAP (Capacitor)
signal-integrity model Cap
pins: 1, 2